# Altium footprint library Temp.PcbLib: 7 footprints
Each footprint in its own frame and in the unit in brackets; x right, y up, seen from the top. Pads: shape width x height; smd on the part's side, far side on the other; paste and mask are expansions set on the pad; w line width, h text height; cw(c..) or ccw(c..) is an arc to the next point about the centre after c.
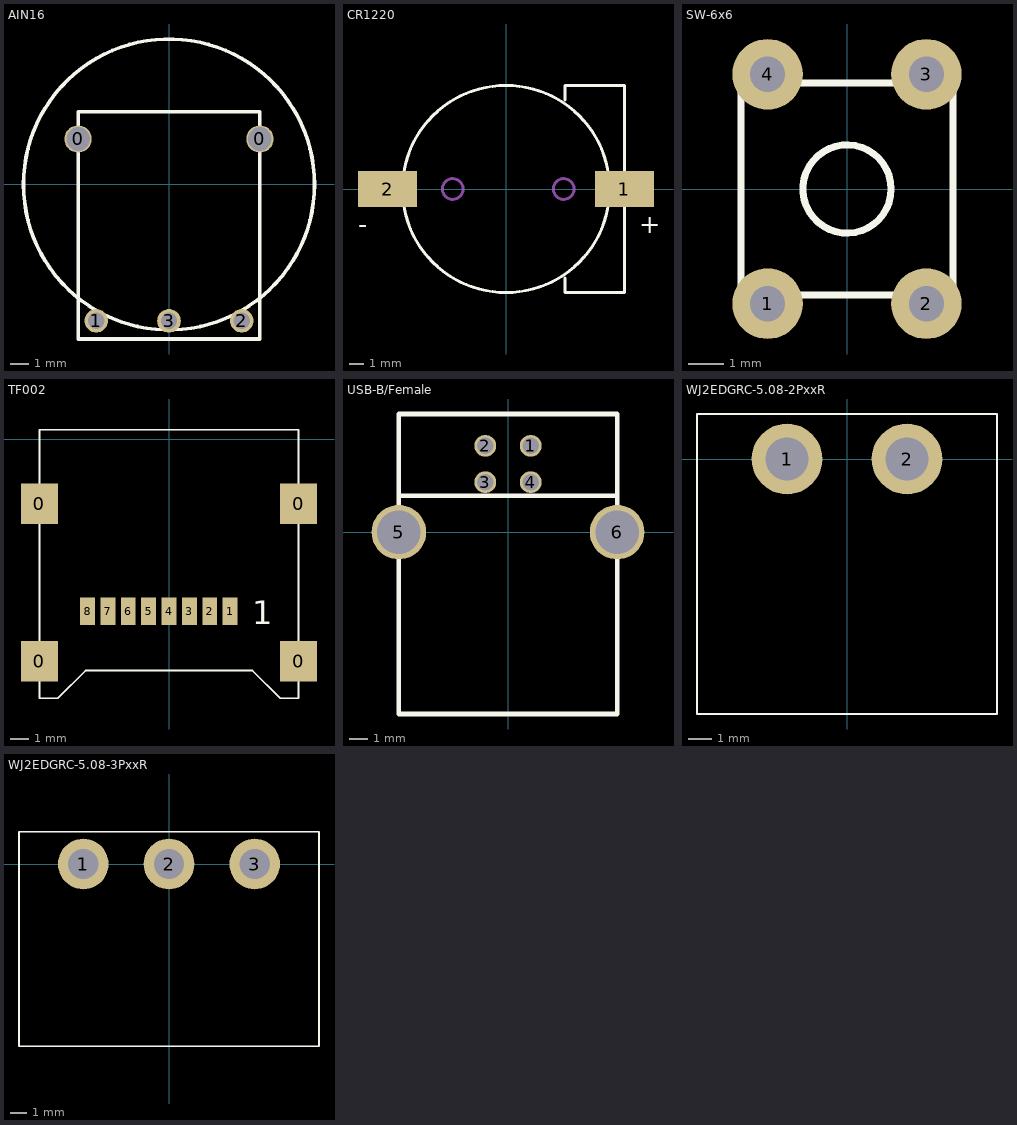
[diagram p0: the footprints below, top view; thin cyan lines are the x and y axes]

## AIN16 [mm]
pads (5):
  round 1.5 hole 1.3: 0(-5,2.5) 0(5,2.5)
  round 1.3 hole 0.9: 1(-4,-7.5) 2(4,-7.5) 3(0,-7.5)
Top Overlay:
  circle w0.2: c0,0 r8
  lines w0.2: -5,-8.5 -5,4 5,4 5,-8.5 -5,-8.5
3D body: height 2, standoff 0, extent -5,-8.5 5,4
3D body: height 4, standoff 2, extent -7.937,-7.984 8,7.984

## CR1220 [mm]
pads (2):
  rect 4x2.4 smd: 1(8,0) 2(-8,0)
Top Overlay:
  circle w0.2: c0,0 r7
  lines w0.2: 4,-6 4,-7 8,-7 8,7 4,7 4,6
  text "+" at 9,-3 h1.27
  text "-" at -10,-3 h1.27
Mechanical 1:
  circle w0.2: c-3.6,0 r0.7
  circle w0.2: c3.9,0 r0.7
3D body: height 4, standoff 0, extent -6.945,-6.986 7,6.986

## SW-6x6 [mm]
height 1.6
pads (4):
  round 2 hole 1: 1(-2.25,-3.25) 2(2.25,-3.25) 3(2.25,3.25) 4(-2.25,3.25)
Top Overlay:
  circle w0.2: c0,0 r1.25
  lines w0.2: -3,-3 3,-3 3,3 -3,3 -3,-3
3D body: height 4, standoff 0, extent -3,-3 3,3
3D body: height 8, standoff 0, extent -1.736,-1.746 1.75,1.747

## TF002 [mm]
pads (12):
  rect 2x2.2 smd: 0(-7,-12) 0(-7,-3.5) 0(7,-12) 0(7,-3.5)
  rect 0.8x1.5 smd: 1(3.3,-9.3) 2(2.2,-9.3) 3(1.1,-9.3) 4(0,-9.3) 5(-1.1,-9.3) 6(-2.2,-9.3) 7(-3.3,-9.3) 8(-4.4,-9.3)
Top Overlay:
  lines w0.1: -7,-14 -6,-14 -4.5,-12.5 4.5,-12.5 6,-14 7,-14 7,0.5 -7,0.5 -7,-14
  text "1" at 4.5,-10 h1.27
3D body: height 2, standoff 0, extent -7,-14 7,0.5

## USB-B/Female [mm]
height 1.75
pads (6):
  round 1.2 hole 0.92: 1(1.25,4.75) 2(-1.25,4.75) 3(-1.25,2.75) 4(1.25,2.75)
  round 3 hole 2.4: 5(-6,0) 6(6,0)
Top Overlay:
  lines w0.254: -6,2 -6,6.5 6,6.5 6,2 ; -6,2 6,2 ; -6,2 -6,-10 6,-10 6,2
3D body: height 10.8, standoff 0, extent -6,-10 6,6.5

## WJ2EDGRC-5.08-2PxxR [mm]
height 8.5
pads (2):
  round 3 hole 1.8: 1(-2.54,0) 2(2.54,0)
Top Overlay:
  lines w0.1: -6.35,-10.795 -6.35,1.905 6.35,1.905 6.35,-10.795 -6.35,-10.795
3D body: height 8.5, standoff 0, extent -6.35,-10.795 6.35,1.905

## WJ2EDGRC-5.08-3PxxR [mm]
height 8.5
pads (3):
  round 3 hole 1.8: 1(-5.08,0) 2(0,0) 3(5.08,0)
Top Overlay:
  lines w0.1: -8.89,-10.795 8.89,-10.795 8.89,1.905 -8.89,1.905 -8.89,-10.795
3D body: height 8.5, standoff 0, extent -8.89,-10.795 8.89,1.905